# Altium footprint library MSOP.PcbLib: 2 footprints
Each footprint in its own frame and in the unit in brackets; x right, y up, seen from the top. Pads: shape width x height; smd on the part's side, far side on the other; paste and mask are expansions set on the pad; w line width, h text height; cw(c..) or ccw(c..) is an arc to the next point about the centre after c.
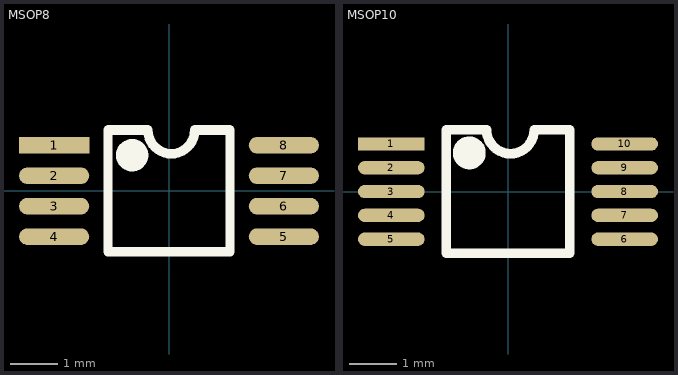
[diagram p0: the footprints below, top view; thin cyan lines are the x and y axes]

## MSOP8 [mm]
pads (8):
  rect 1.5x0.35 smd: 1(-2.45,0.975)
  oval 1.5x0.35 smd: 2(-2.45,0.325) 3(-2.45,-0.325) 4(-2.45,-0.975) 5(2.45,-0.975) 6(2.45,-0.325) 7(2.45,0.325) 8(2.45,0.975)
Top Overlay:
  circle w0.381: c-0.787,0.762 r0.155
  lines w0.2: -1.3,1.3 -1.3,-1.3 1.3,-1.3 1.3,1.3
  lines w0.203: -1.3,1.3 -0.46,1.3 ; -0.45,1.3 ccw(c0.058,1.3) 0.058,0.792 ; 0.042,0.792 ccw(c0.042,1.3) 0.55,1.3 ; 0.556,1.3 1.3,1.3
3D body "MSOP8.STEP": height 0.95, standoff 0, extent -2.45,-1.499 2.45,1.501

## MSOP10 [mm]
pads (10):
  rect 1.4x0.28 smd: 1(-2.45,1)
  oval 1.4x0.28 smd: 2(-2.45,0.5) 3(-2.45,0) 4(-2.45,-0.5) 5(-2.45,-1) 6(2.45,-1) 7(2.45,-0.5) 8(2.45,0) 9(2.45,0.5) 10(2.45,1)
Top Overlay:
  circle w0.381: c-0.813,0.813 r0.155
  lines w0.2: -1.3,1.3 -1.3,-1.3 1.3,-1.3 1.3,1.3
  lines w0.203: -1.3,1.3 -0.46,1.3 ; -0.45,1.3 ccw(c0.058,1.3) 0.058,0.792 ; 0.042,0.792 ccw(c0.042,1.3) 0.55,1.3 ; 0.556,1.3 1.3,1.3
3D body "MSOP10.STEP": height 0.95, standoff 0, extent -2.425,-1.524 2.475,1.476